# EAGLE library part PCF85263ATL/AX (library RTC)
IC RTC CLK/CALENDAR I2C 10DFN Manufacturer's datasheet <https://www.nxp.com/docs/en/data-sheet/PCF85263A.pdf>
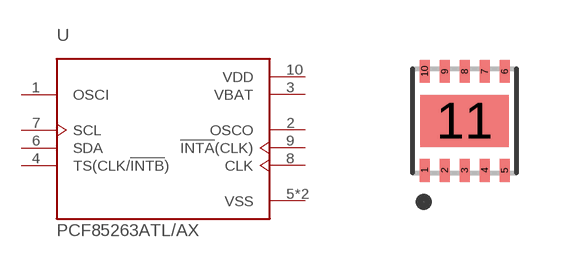
[diagram p2: symbol with the pads of PCF85263ATL/AX; footprint PCF85263ATL/AX]

Designator prefix U

## PCF85263ATL/AX (CREATED_BY: PCBLayout.com; DIGIKEY_PN: 568-11541-1-ND; MANUFACTURER: NXP USA Inc.; MPN: PCF85263ATL/AX; PACKAGE: 10-DFN)  [PCF85263ATL/AX]
1  OSCI  in
2  OSCO  out
3  VBAT  pwr
4  TS(CLK/!INTB!)
5  VSS  pwr
6  SDA
7  SCL  in
8  CLK
9  !INTA!(CLK)  out
10  VDD  pwr
11  VSS  pwr

## Footprint PCF85263ATL/AX (pad centres in mm)
smd 0.25 x 0.575: 1 -1,-1.238; 2 -0.5,-1.238; 3 0,-1.238; 4 0.5,-1.238; 5 1,-1.238; 6 1,1.238; 7 0.5,1.238; 8 0,1.238; 9 -0.5,1.238; 10 -1,1.238
smd 2.2 x 1.3: 11 0,0